# EAGLE library part MT9V022 (library Traficon)
MICRON 752x480 CMOS SENSOR
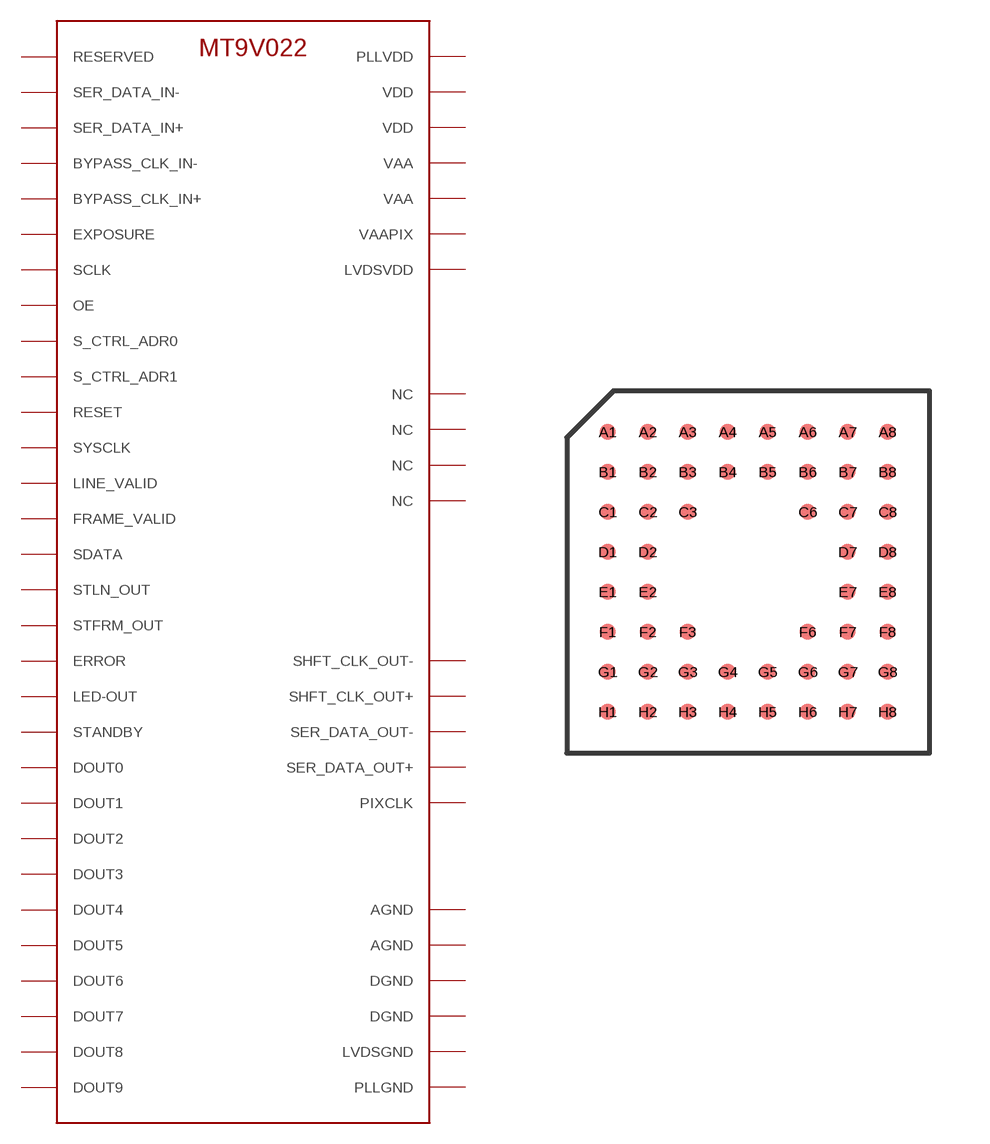
[diagram p22: symbol with the pads of IBGA52; footprint IBGA52]

Designator prefix P

## MT9V022  [IBGA52]
A1  PLLVDD  pwr
A2  SER_DATA_OUT+  out
A3  SER_DATA_OUT-  out
A4  LVDSVDD  pwr
A5  SYSCLK  in
A6  DOUT0  out
A7  DOUT2  out
A8  DOUT3  out
B1  PLLGND  pwr
B2  SHFT_CLK_OUT+  out
B3  SHFT_CLK_OUT-  out
B4  VDD  pwr
B5  PIXCLK  out
B6  DOUT1  out
B7  DOUT4  out
B8  VAAPIX  pwr
C1  BYPASS_CLK_IN+  in
C2  BYPASS_CLK_IN-  in
C3  LVDSGND  pwr
C6  DGND  pwr
C7  AGND  pwr
C8  VAA  pwr
D1  SER_DATA_IN+  in
D2  SER_DATA_IN-  in
D7  NC  nc
D8  NC  nc
E1  DOUT5  out
E2  VDD  pwr
E7  NC  nc
E8  NC  nc
F1  DOUT6  out
F2  DOUT7  out
F3  DGND  pwr
F6  AGND  pwr
F7  VAA  pwr
F8  STANDBY  in
G1  DOUT8  out
G2  FRAME_VALID  out
G3  STLN_OUT
G4  SDATA
G5  STFRM_OUT
G6  LED-OUT  out
G7  S_CTRL_ADR0  in
G8  RESET  in
H1  DOUT9  out
H2  LINE_VALID  out
H3  EXPOSURE  in
H4  SCLK  in
H5  ERROR  out
H6  OE  in
H7  RESERVED  in
H8  S_CTRL_ADR1  in

## Footprint IBGA52 (pad centres in mm)
smd 0.4 x 0.4: A1 -3.5,3.5; A2 -2.5,3.5; A3 -1.5,3.5; A4 -0.5,3.5; A5 0.5,3.5; A6 1.5,3.5; A7 2.5,3.5; A8 3.5,3.5; B1 -3.5,2.5; B2 -2.5,2.5; B3 -1.5,2.5; B4 -0.5,2.5; B5 0.5,2.5; B6 1.5,2.5; B7 2.5,2.5; B8 3.5,2.5; C1 -3.5,1.5; C2 -2.5,1.5; C3 -1.5,1.5; C6 1.5,1.5; C7 2.5,1.5; C8 3.5,1.5; D1 -3.5,0.5; D2 -2.5,0.5; D7 2.5,0.5; D8 3.5,0.5; E1 -3.5,-0.5; E2 -2.5,-0.5; E7 2.5,-0.5; E8 3.5,-0.5; F1 -3.5,-1.5; F2 -2.5,-1.5; F3 -1.5,-1.5; F6 1.5,-1.5; F7 2.5,-1.5; F8 3.5,-1.5; G1 -3.5,-2.5; G2 -2.5,-2.5; G3 -1.5,-2.5; G4 -0.5,-2.5; G5 0.5,-2.5; G6 1.5,-2.5; G7 2.5,-2.5; G8 3.5,-2.5; H1 -3.5,-3.5; H2 -2.5,-3.5; H3 -1.5,-3.5; H4 -0.5,-3.5; H5 0.5,-3.5; H6 1.5,-3.5; H7 2.5,-3.5; H8 3.5,-3.5